# EAGLE library part ISL55110 (library ISL55110)
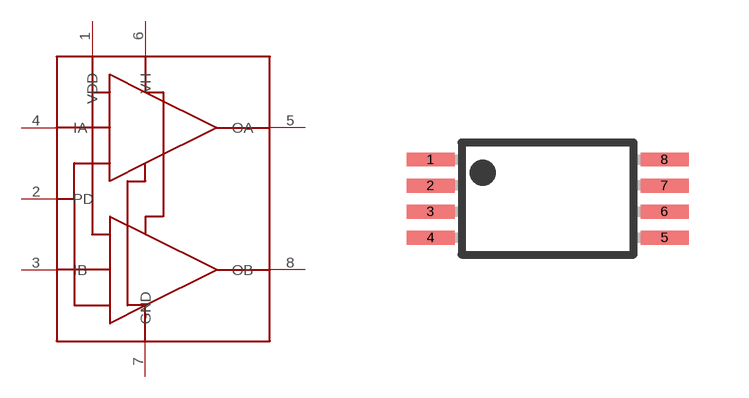
[diagram p0: symbol with the pads of TSSOP8; footprint TSSOP8]

Designator prefix -

## ISL55110  [TSSOP8]
1  VDD  pwr
2  PD  in
3  IB  in
4  IA  in
5  OA  out
6  VH  pwr
7  GND  pwr
8  OB  out

## Footprint TSSOP8 (pad centres in mm)
Plastic Small Outline
smd 1.2 x 0.35: 1 -2.925,0.975; 2 -2.925,0.325; 3 -2.925,-0.325; 4 -2.925,-0.975; 5 2.925,-0.975; 6 2.925,-0.325; 7 2.925,0.325; 8 2.925,0.975